# EAGLE library part LTD482G (library LTD482G)
Display 2x7Seg - LTD482G
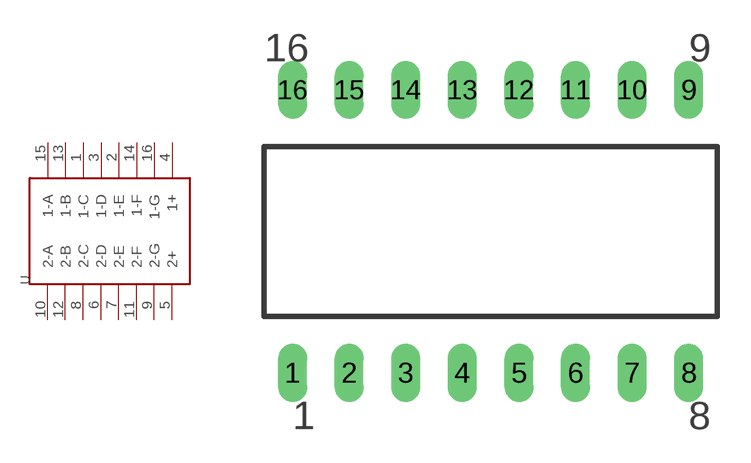
[diagram p0: symbol with the pads of LTD482G; footprint LTD482G]

Designator prefix -

## LTD482G  [LTD482G]
1  1-C
2  1-E
3  1-D
4  1+
5  2+
6  2-D
7  2-E
8  2-C
9  2-G
10  2-A
11  2-F
12  2-B
13  1-B
14  1-F
15  1-A
16  1-G

## Footprint LTD482G (pad centres in mm)
drill 0.8 long: 1 -7.62,-5.08; 2 -5.08,-5.08; 3 -2.54,-5.08; 4 0,-5.08; 5 2.54,-5.08; 6 5.08,-5.08; 7 7.62,-5.08; 8 10.16,-5.08; 9 10.16,7.62; 10 7.62,7.62; 11 5.08,7.62; 12 2.54,7.62; 13 0,7.62; 14 -2.54,7.62; 15 -5.08,7.62; 16 -7.62,7.62